# Altium schematic symbol library C_1206_100uF.SchLib: 1 symbol
Pins are listed as number, name and electrical type; pins without a type are passive.

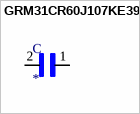
[diagram p0: symbol GRM31CR60J107KE39L]

## GRM31CR60J107KE39L
designator C
100ÂµF Â±10% 6.3V Ceramic Capacitor X5R 1206 _3216 Metric_; MF: Murata Electronics; MP: GRM31CR60J107KE39L; Value: *; SnapEDA_Link: https://www.snapeda.com/parts/GRM31CR60J107KE39L/Murata%20Electronics%20North%20America/view-part/1756509/?ref=snap; Package: 1206 Murata; Digi-Key_Purchase_URL: https://www.digikey.com/product-detail/en/murata-electronics/GRM31CR60J107KE39L/490-13982-1-ND/6155812?utm_source=snapeda&utm_medium=aggregator&utm_campaign=symbol; Digi-Key_Part_Number: 490-13982-1-ND
footprint CAP3216X125N
pins: 1, 2